# EAGLE library part LTC1966* (library linear-tech-3)
Precision Micropower, DS RMS-to-DC Converter
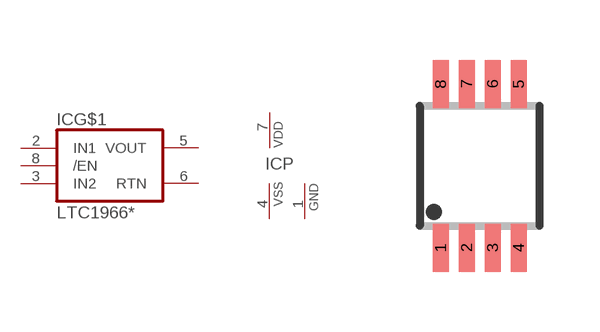
[diagram p40: symbol with the pads of MSOP8; footprint MSOP8]

Designator prefix IC; gates P=PWRN-D-S-G G$1=LTC1966

## LTC1966CMS8, LTC1966IMS8  [MSOP8]
1  P:GND  pwr
2  G$1:IN1  in
3  G$1:IN2  in
4  P:VSS  pwr
5  G$1:VOUT  out
6  G$1:RTN  pas
7  P:VDD  pwr
8  G$1:/EN  in

## Footprint MSOP8 (pad centres in mm)
MSOP8
smd 0.4 x 1.2: 1 -0.975,-2.05; 2 -0.325,-2.05; 3 0.325,-2.05; 4 0.975,-2.05; 5 0.975,2.05; 6 0.325,2.05; 7 -0.325,2.05; 8 -0.975,2.05